# Altium footprint library 常用元件封装.PCBLIB: 174 footprints (part 7 of 11)
Each footprint in its own frame and in the unit in brackets; x right, y up, seen from the top. Pads: shape width x height; smd on the part's side, far side on the other; paste and mask are expansions set on the pad; w line width, h text height; cw(c..) or ccw(c..) is an arc to the next point about the centre after c.
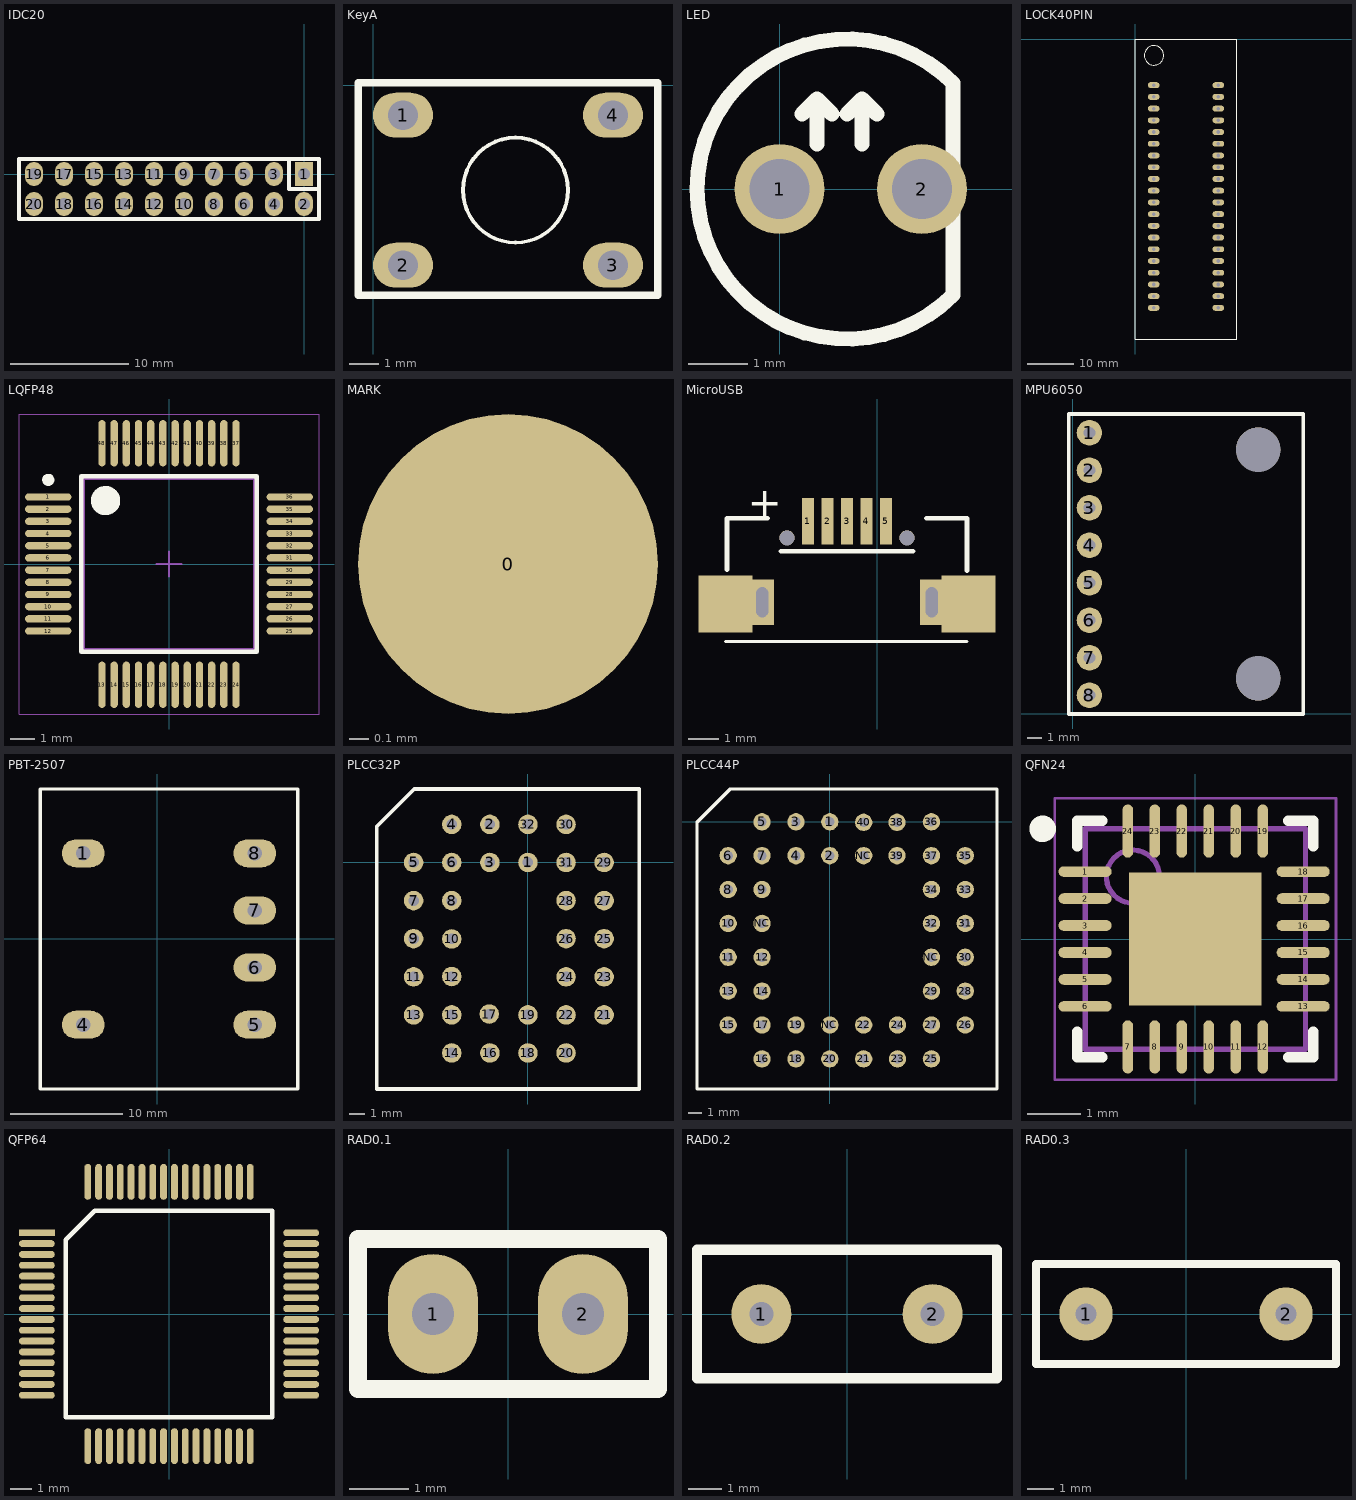
[diagram p6: the footprints below, top view; thin cyan lines are the x and y axes]

## IDC20 [mil]
pads (20):
  rect 60x80 hole 40: 1(0,0)
  oval 60x80 hole 40: 2(0,-100) 3(-100,0) 4(-100,-100) 5(-200,0) 6(-200,-100) 7(-300,0) 8(-300,-100) 9(-400,0) 10(-400,-100) 11(-500,0) 12(-500,-100) 13(-600,0) 14(-600,-100) 15(-700,0) 16(-700,-100) 17(-800,0) 18(-800,-100) 19(-900,0) 20(-900,-100)
TopOverlay:
  lines w12: -50,50 -50,-50 50,-50 ; -950,-150 -950,50 50,50 50,-150 -950,-150

## KeyA [mil]
pads (4):
  oval 80x60 hole 39.37: 1(40,-40) 2(40,-240) 3(320,-240) 4(320,-40)
TopOverlay:
  circle w5: c190,-140 r70
  lines w10: -20,-280 -20,-240 -20,0 -20,2.99 8.82,2.99 371.02,2.99 380,2.99 380,-240 380,-280 140,-280 -20,-280

## LED [mil]
pads (2):
  round 60 hole 40: 1(0,0) 2(95,0)
TopOverlay:
  lines w10: 15,50 25,60 ; 25,30 25,60 ; 35,50 25,60 ; 45,50 55,60 ; 55,30 55,60 ; 65,50 55,60 ; 115.71,-70.71 cw(c45,0) 115.71,70.71 115.71,-70.71

## LOCK40PIN [mm] "green lock IC"
pads (40):
  oval 2.54x1.27 hole 0.8: 1(4,-10) 2(4,-12.54) 3(4,-15.08) 4(4,-17.62) 5(4,-20.16) 6(4,-22.7) 7(4,-25.24) 8(4,-27.78) 9(4,-30.32) 10(4,-32.86) 11(4,-35.4) 12(4,-37.94) 13(4,-40.48) 14(4,-43.02) 15(4,-45.56) 16(4,-48.1) 17(4,-50.64) 18(4,-53.18) 19(4,-55.72) 20(4,-58.26) 21(18,-58.26) 22(18,-55.72) 23(18,-53.18) 24(18,-50.64) 25(18,-48.1) 26(18,-45.56) 27(18,-43.02) 28(18,-40.48) 29(18,-37.94) 30(18,-35.4) 31(18,-32.86) 32(18,-30.32) 33(18,-27.78) 34(18,-25.24) 35(18,-22.7) 36(18,-20.16) 37(18,-17.62) 38(18,-15.08) 39(18,-12.54) 40(18,-10)
TopOverlay:
  circle w0.254: c4.064,-3.556 r2.095
  lines w0.254: 0,-65 22,-65 22,0 0,0 0,-65

## LQFP48 [mm] "SQFP, 48-Leads, Body 7.00x7.00mm, Pitch 0.50mm, IPC Medium Density"
height 2.45
pads (48):
  oval 1.9x0.3 smd mask+0.09: 1(-4.95,2.75) 2(-4.95,2.25) 3(-4.95,1.75) 5(-4.95,0.75) 7(-4.95,-0.25) 9(-4.95,-1.25) 11(-4.95,-2.25) 26(4.95,-2.25) 28(4.95,-1.25) 30(4.95,-0.25) 32(4.95,0.75) 34(4.95,1.75) 36(4.95,2.75)
  oval 1.9x0.3 smd: 4(-4.95,1.25) 6(-4.95,0.25) 8(-4.95,-0.75) 10(-4.95,-1.75) 12(-4.95,-2.75) 25(4.95,-2.75) 27(4.95,-1.75) 29(4.95,-0.75) 31(4.95,0.25) 33(4.95,1.25) 35(4.95,2.25)
  oval 0.3x1.9 smd: 13(-2.75,-4.95) 15(-1.75,-4.95) 17(-0.75,-4.95) 19(0.25,-4.95) 21(1.25,-4.95) 23(2.25,-4.95) 38(2.25,4.95) 40(1.25,4.95) 42(0.25,4.95) 44(-0.75,4.95) 46(-1.75,4.95) 48(-2.75,4.95)
  oval 0.3x1.9 smd mask+0.09: 14(-2.25,-4.95) 16(-1.25,-4.95) 18(-0.25,-4.95) 20(0.75,-4.95) 22(1.75,-4.95) 24(2.75,-4.95) 41(0.75,4.95) 43(-0.25,4.95) 45(-1.25,4.95) 47(-2.25,4.95)
  oval 0.3x1.9 smd mask+0.082: 37(2.75,4.95) 39(1.75,4.95)
TopOverlay:
  circle w0.6: c-2.6,2.6 r0.3
  circle w0.25: c-4.95,3.45 r0.125
  lines w0.2: -3.6,-3.6 3.6,-3.6 3.6,3.6 -3.6,3.6 -3.6,-3.6
Mechanical13:
  circle w0.1: c-2.6,2.6 r0.5
  lines w0.1: -3.5,-3.5 3.5,-3.5 3.5,3.5 -3.5,3.5 -3.5,-3.5
Mechanical15:
  lines w0.05: -6.15,-6.15 6.15,-6.15 6.15,6.15 -6.15,6.15 -6.15,-6.15
  lines w0.1: -0.5,0 0.5,0 ; 0,-0.5 0,0.5
3D body: height 2.45, standoff 0.15, extent -3.5,-3.5 3.5,3.5

## MARK [mil]
pads (1):
  round 60 all layers, no hole: 0(50000,50000)

## MicroUSB [mm]
pads (11):
  rect 0.4x1.55 smd mask+0: 1(-2.316,9.312) 2(-1.666,9.312) 3(-1.016,9.312) 4(-0.366,9.312) 5(0.284,9.312)
  rect 1.8x1.9 smd mask+0: ""(-5.066,6.562) ""(3.034,6.562)
  rect 0.8x1.5 hole 0.4 slot 1 at 90 deg mask+0: ""(-3.841,6.612) ""(1.809,6.612)
  round 0.5 hole 0.5 unplated mask+0: ""(-3.016,8.762) ""(0.984,8.762)
TopOverlay:
  lines w0.1: -5.066,5.312 2.984,5.312
  lines w0.152: -5.016,7.696 -5.016,9.412 -3.666,9.412 ; -3.216,8.312 1.184,8.312 ; 1.634,9.412 2.984,9.412 2.984,7.662
  text "+" at -4.316,9.462 h1

## MPU6050 [mm]
pads (10):
  round 1.724 hole 0.8: 1(1.143,19.05) 2(1.143,16.51) 3(1.143,13.97) 4(1.143,11.43) 5(1.143,8.89) 6(1.143,6.35) 7(1.143,3.81) 8(1.143,1.27)
  round 3 hole 3 mask+0: ""(12.573,2.413) ""(12.573,17.907)
TopOverlay:
  lines w0.254: -0.254,0 15.621,0 15.621,20.32 -0.254,20.32 -0.254,0

## PBT-2507 [mil]
pads (6):
  oval 150x98 hole 50: 1(-259,299) 4(-259,-301) 5(341,-301) 6(341,-101) 7(341,99) 8(341,299)
TopOverlay:
  lines w12: -409,-526 -409,524 491,524 491,-526 -409,-526

## PLCC32P [mm]
pads (32):
  round 1.3 hole 0.7: 1(0,0) 2(-2.54,2.54) 3(-2.54,0) 4(-5.08,2.54) 5(-7.62,0) 6(-5.08,0) 7(-7.62,-2.54) 8(-5.08,-2.54) 9(-7.62,-5.08) 10(-5.08,-5.1) 11(-7.62,-7.62) 12(-5.08,-7.6) 13(-7.62,-10.16) 14(-5.08,-12.7) 15(-5.08,-10.16) 16(-2.54,-12.7) 17(-2.58,-10.1) 18(0,-12.7) 19(0,-10.16) 20(2.54,-12.7) 21(5.08,-10.16) 22(2.54,-10.16) 23(5.08,-7.62) 24(2.54,-7.62) 25(5.08,-5.08) 26(2.54,-5.08) 27(5.08,-2.54) 28(2.54,-2.54) 29(5.08,0) 30(2.54,2.54) 31(2.54,0) 32(0,2.54)
TopOverlay:
  lines w0.254: -10.08,-15.1 7.42,-15.1 7.42,4.9 -5.08,4.9 -7.58,4.9 -10.08,2.4 -10.08,-0.1 -10.08,-15.1

## PLCC44P [mm]
pads (44):
  round 1.3 hole 0.7: 1(0,0) 2(0,-2.54) 3(-2.54,0) 4(-2.54,-2.54) 5(-5.08,0) 6(-7.62,-2.54) 7(-5.08,-2.54) 8(-7.62,-5.08) 9(-5.08,-5.08) 10(-7.62,-7.62) 11(-7.62,-10.16) 12(-5.08,-10.16) 13(-7.62,-12.7) 14(-5.08,-12.7) 15(-7.62,-15.24) 16(-5.08,-17.78) 17(-5.08,-15.24) 18(-2.54,-17.78) 19(-2.54,-15.24) 20(0,-17.78) 21(2.54,-17.78) 22(2.54,-15.24) 23(5.08,-17.78) 24(5.08,-15.24) 25(7.62,-17.78) 26(10.16,-15.24) 27(7.62,-15.24) 28(10.16,-12.7) 29(7.62,-12.7) 30(10.16,-10.16) 31(10.16,-7.62) 32(7.62,-7.62) 33(10.16,-5.08) 34(7.62,-5.08) 35(10.16,-2.54) 36(7.62,0) 37(7.62,-2.54) 38(5.04,-0.04) 39(5.04,-2.54) 40(2.54,-0.04) NC(-5.08,-7.62) NC(0,-15.24) NC(2.54,-2.54) NC(7.62,-10.16)
TopOverlay:
  lines w0.254: -9.96,-20.04 -9.96,-2.54 -9.96,-0.04 -7.46,2.46 -4.96,2.46 12.54,2.46 12.54,-20.04 -9.96,-20.04

## QFN24 [mm] "QFN, 24-Leads, Body 4.00x4.00mm, Pitch 0.50mm, Thermal Pad 2.60x2.70mm, IPC Medium Density"
height 0.9
pads (25):
  oval 1x0.2 smd: 1(-2.075,1.27) 2(-2.075,0.762) 3(-2.075,0.254) 4(-2.075,-0.254) 5(-2.075,-0.762) 6(-2.075,-1.27) 13(2.032,-1.27) 14(2.032,-0.762) 15(2.032,-0.254) 16(2.032,0.254) 17(2.032,0.762) 18(2.032,1.27)
  oval 0.2x1 smd: 7(-1.27,-2.032) 8(-0.762,-2.032) 9(-0.254,-2.032) 10(0.254,-2.032) 11(0.762,-2.032) 12(1.27,-2.032) 19(1.27,2.032) 20(0.762,2.032) 21(0.254,2.032) 22(-0.254,2.032) 23(-0.762,2.032) 24(-1.27,2.032)
  rect 2.5x2.5 smd: ""(0,0)
TopOverlay:
  circle w0.25: c-2.875,2.075 r0.125
  lines w0.2: -2.225,-1.75 -2.225,-2.225 -1.75,-2.225 ; -2.225,1.75 -2.225,2.225 -1.75,2.225 ; 1.75,-2.225 2.225,-2.225 2.225,-1.75 ; 1.75,2.225 2.225,2.225 2.225,1.75
Mechanical13:
  circle w0.1: c-1.175,1.175 r0.5
  lines w0.1: -2.075,-2.075 -2.075,2.075 2.075,2.075 2.075,-2.075 -2.075,-2.075
Mechanical15:
  lines w0.05: -2.65,-2.65 -2.65,2.65 2.65,2.65 2.65,-2.65 -2.65,-2.65
  lines w0.1: -0.5,0 0.5,0 ; 0,-0.5 0,0.5
3D body: height 0.9, standoff 0.02, extent -2.075,-2.075 2.075,2.075

## QFP64 [mm]
pads (64):
  rect 1.651x0.32 smd: 1(-6.1,3.75)
  oval 1.651x0.32 smd: 2(-6.1,3.25) 3(-6.1,2.75) 4(-6.1,2.25) 5(-6.1,1.75) 6(-6.1,1.25) 7(-6.1,0.75) 8(-6.1,0.25) 9(-6.1,-0.25) 10(-6.1,-0.75) 11(-6.1,-1.25) 12(-6.1,-1.75) 13(-6.1,-2.25) 14(-6.1,-2.75) 15(-6.1,-3.25) 16(-6.1,-3.75) 33(6.1,-3.75) 34(6.1,-3.25) 35(6.1,-2.75) 36(6.1,-2.25) 37(6.1,-1.75) 38(6.1,-1.25) 39(6.1,-0.75) 40(6.1,-0.25) 41(6.1,0.25) 42(6.1,0.75) 43(6.1,1.25) 44(6.1,1.75) 45(6.1,2.25) 46(6.1,2.75) 47(6.1,3.25) 48(6.1,3.75)
  oval 0.32x1.651 smd: 17(-3.75,-6.1) 18(-3.25,-6.1) 19(-2.75,-6.1) 20(-2.25,-6.1) 21(-1.75,-6.1) 22(-1.25,-6.1) 23(-0.75,-6.1) 24(-0.25,-6.1) 25(0.25,-6.1) 26(0.75,-6.1) 27(1.25,-6.1) 28(1.75,-6.1) 29(2.25,-6.1) 30(2.75,-6.1) 31(3.25,-6.1) 32(3.75,-6.1) 49(3.75,6.1) 50(3.25,6.1) 51(2.75,6.1) 52(2.25,6.1) 53(1.75,6.1) 54(1.25,6.1) 55(0.75,6.1) 56(0.25,6.1) 57(-0.25,6.1) 58(-0.75,6.1) 59(-1.25,6.1) 60(-1.75,6.1) 61(-2.25,6.1) 62(-2.75,6.1) 63(-3.25,6.1) 64(-3.75,6.1)
TopOverlay:
  lines w0.2: -4.765,-4.765 -4.765,3.43 -3.43,4.765 4.765,4.765 4.765,-4.765 -4.765,-4.765

## RAD0.1 [mil]
pads (2):
  oval 60x80 hole 28: 1(-50,0) 2(50,0)
TopOverlay:
  lines w12: -100,-50 100,-50 100,50 -100,50 -100,-50

## RAD0.2 [mil]
pads (2):
  round 70 hole 28: 1(-100,0) 2(100,0)
TopOverlay:
  lines w12: -175,-75 175,-75 175,75 -175,75 -175,-75

## RAD0.3 [mil]
pads (2):
  round 80 hole 32: 1(-150,0) 2(150,0)
TopOverlay:
  lines w12: -225,-75 225,-75 225,75 -225,75 -225,-75